# EAGLE library part LM5069MM-2/NOPB (library power_dist)
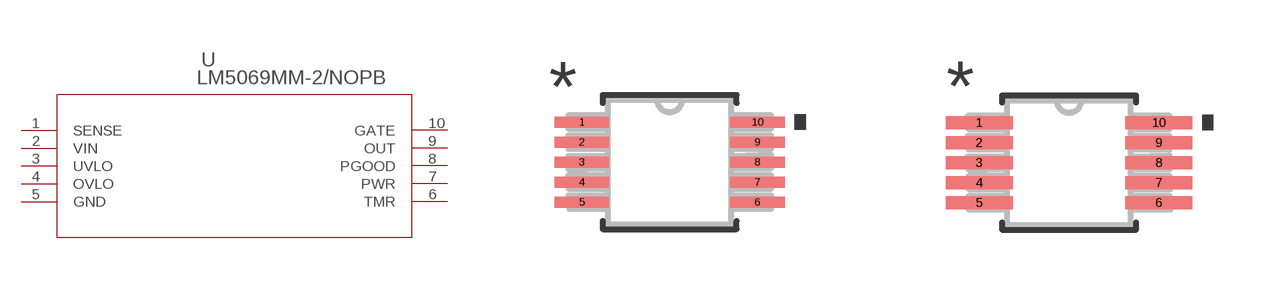
[diagram p5: symbol with the pads of MUB10A_TEX; footprints MUB10A_TEX, MUB10A_TEX-M]

Designator prefix U

## LM5069MM-2/NOPB (BUILT_BY: EMA_UL_Team; MANUFACTURER_PART_NUMBER: LM5069MM-2/NOPB; SOURCELIBRARY: National_2014-06-20; VENDOR: Texas Instruments)  [MUB10A_TEX]
1  SENSE  pas
2  VIN  in
3  UVLO  pas
4  OVLO  pas
5  GND  pas
6  TMR  pas
7  PWR  pas
8  PGOOD  pas
9  OUT  out
10  GATE  pas

## LM5069MM-2/NOPBMUB10A_TEX-M (BUILT_BY: EMA_UL_Team; MANUFACTURER_PART_NUMBER: LM5069MM-2/NOPB; SOURCELIBRARY: National_2014-06-20; VENDOR: Texas Instruments)  [MUB10A_TEX-M]
Pads as for MUB10A_TEX

## LM5069MM-2/NOPBMUB10A_TEX-L (BUILT_BY: EMA_UL_Team; MANUFACTURER_PART_NUMBER: LM5069MM-2/NOPB; SOURCELIBRARY: National_2014-06-20; VENDOR: Texas Instruments)  [MUB10A_TEX-L]
Pads as for MUB10A_TEX

## Footprint MUB10A_TEX (pad centres in mm)
smd 1.372 x 0.279: 1 -2.197,1; 2 -2.197,0.5; 3 -2.197,0; 4 -2.197,-0.5; 5 -2.197,-1; 6 2.197,-1; 7 2.197,-0.5; 8 2.197,0; 9 2.197,0.5; 10 2.197,1

## Footprint MUB10A_TEX-M (pad centres in mm)
smd 1.676 x 0.33: 1 -2.248,1; 2 -2.248,0.5; 3 -2.248,0; 4 -2.248,-0.5; 5 -2.248,-1; 6 2.248,-1; 7 2.248,-0.5; 8 2.248,0; 9 2.248,0.5; 10 2.248,1

## Footprint MUB10A_TEX-L (pad centres in mm)
smd 1.067 x 0.229: 1 -2.146,1; 2 -2.146,0.5; 3 -2.146,0; 4 -2.146,-0.5; 5 -2.146,-1; 6 2.146,-1; 7 2.146,-0.5; 8 2.146,0; 9 2.146,0.5; 10 2.146,1